# EAGLE library part KSZ8081RNBIA-TR (library circuit_tree)
IC
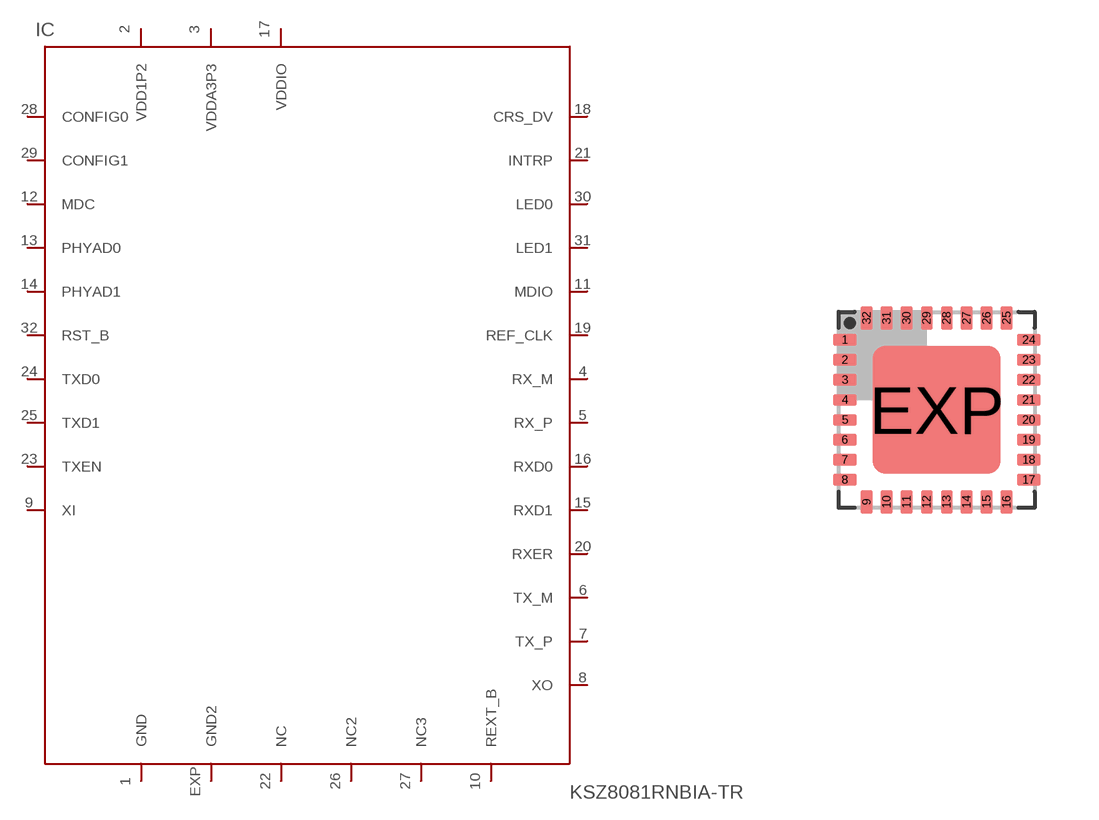
[diagram p2: symbol with the pads of QFN-32; footprint QFN-32]

Designator prefix IC

## KSZ8081RNBIA-TR  [QFN-32]
1  GND  pas
2  VDD1P2  pas
3  VDDA3P3  pas
4  RX_M  pas
5  RX_P  pas
6  TX_M  pas
7  TX_P  pas
8  XO  pas
9  XI  pas
10  REXT_B  pas
11  MDIO  pas
12  MDC  pas
13  PHYAD0  pas
14  PHYAD1  pas
15  RXD1  pas
16  RXD0  pas
17  VDDIO  pas
18  CRS_DV  pas
19  REF_CLK  pas
20  RXER  pas
21  INTRP  pas
22  NC  pas
23  TXEN  pas
24  TXD0  pas
25  TXD1  pas
26  NC2  pas
27  NC3  pas
28  CONFIG0  pas
29  CONFIG1  pas
30  LED0  pas
31  LED1  pas
32  RST_B  pas
EXP  GND2  pas

## Footprint QFN-32 (pad centres in mm)
smd 0.6 x 0.3: 1 -2.3,1.75; 2 -2.3,1.25; 3 -2.3,0.75; 4 -2.3,0.25; 5 -2.3,-0.25; 6 -2.3,-0.75; 7 -2.3,-1.25; 8 -2.3,-1.75; 17 2.3,-1.75; 18 2.3,-1.25; 19 2.3,-0.75; 20 2.3,-0.25; 21 2.3,0.25; 22 2.3,0.75; 23 2.3,1.25; 24 2.3,1.75
smd 0.3 x 0.6: 9 -1.75,-2.3; 10 -1.25,-2.3; 11 -0.75,-2.3; 12 -0.25,-2.3; 13 0.25,-2.3; 14 0.75,-2.3; 15 1.25,-2.3; 16 1.75,-2.3; 25 1.75,2.3; 26 1.25,2.3; 27 0.75,2.3; 28 0.25,2.3; 29 -0.25,2.3; 30 -0.75,2.3; 31 -1.25,2.3; 32 -1.75,2.3
smd 3.2 x 3.2: EXP 0,0